# Altium footprint library SAW_QCC8B_SM3838-8_3.8x3.8.PcbLib: 1 footprints
Each footprint in its own frame and in the unit in brackets; x right, y up, seen from the top. Pads: shape width x height; smd on the part's side, far side on the other; paste and mask are expansions set on the pad; w line width, h text height; cw(c..) or ccw(c..) is an arc to the next point about the centre after c.
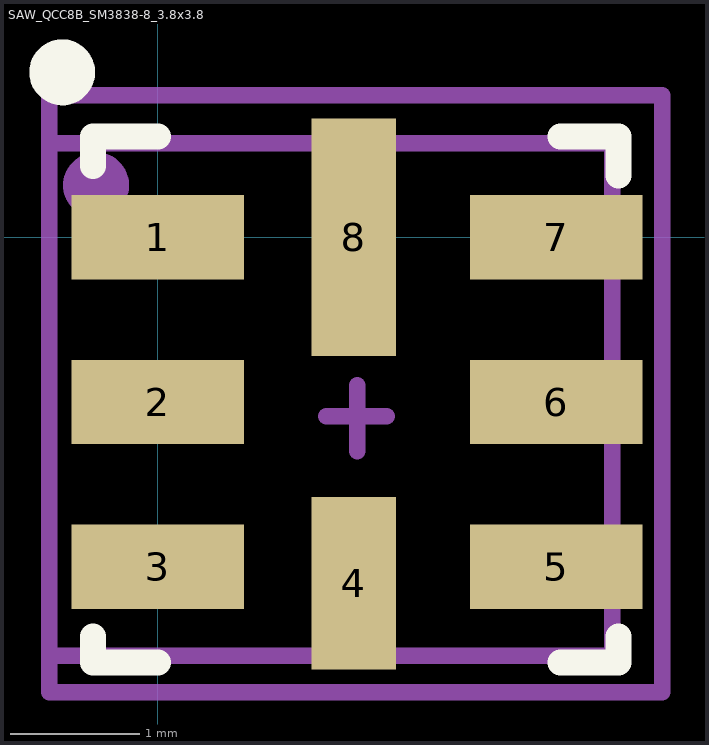
[diagram p0: the footprint, top view; thin cyan lines are the x and y axes]

## SAW_QCC8B_SM3838-8_3.8x3.8 [mm]
height 1.4
pads (8):
  rect 1.33x0.65 smd: 1(0,0) 2(0,-1.27) 3(0,-2.54) 5(3.07,-2.54) 6(3.07,-1.27) 7(3.07,0)
  rect 0.65x1.33 smd: 4(1.51,-2.667)
  rect 0.65x1.83 smd: 8(1.51,0)
Top Overlay:
  circle w0.254: c-0.737,1.27 r0.127
  lines w0.2: -0.5,-3.075 -0.5,-3.275 0,-3.275 ; -0.5,0.55 -0.5,0.775 0,0.775 ; 3.1,-3.275 3.55,-3.275 3.55,-3.075 ; 3.1,0.775 3.55,0.775 3.55,0.475
Mechanical 13:
  circle w0.254: c-0.475,0.4 r0.127
  lines w0.127: -0.838,-3.225 3.5,-3.225 3.5,0.725 -0.838,0.725 -0.838,-3.225
Mechanical 15:
  lines w0.127: 1.296,-1.379 1.765,-1.379 ; 1.535,-1.649 1.535,-1.141 ; -0.838,-3.505 3.886,-3.505 3.886,1.092 -0.838,1.092 -0.838,-3.505
Mechanical 17:
  text "'.Designator'" at -0.903,-0.889 h0.41
Mechanical 19:
  text "'.Comment'" at -0.225,-2.15 h0.41
3D body: height 1.43, standoff 1.4, extent 2.731,0.026 3.237,0.533
3D body "SW3dPS-QCC8B.STEP": height 1.52, standoff -0.09, extent -0.375,-3.15 3.425,0.65